# Altium footprint library PcbLib2.PcbLib: 1 footprints
Each footprint in its own frame and in the unit in brackets; x right, y up, seen from the top. Pads: shape width x height; smd on the part's side, far side on the other; paste and mask are expansions set on the pad; w line width, h text height; cw(c..) or ccw(c..) is an arc to the next point about the centre after c.
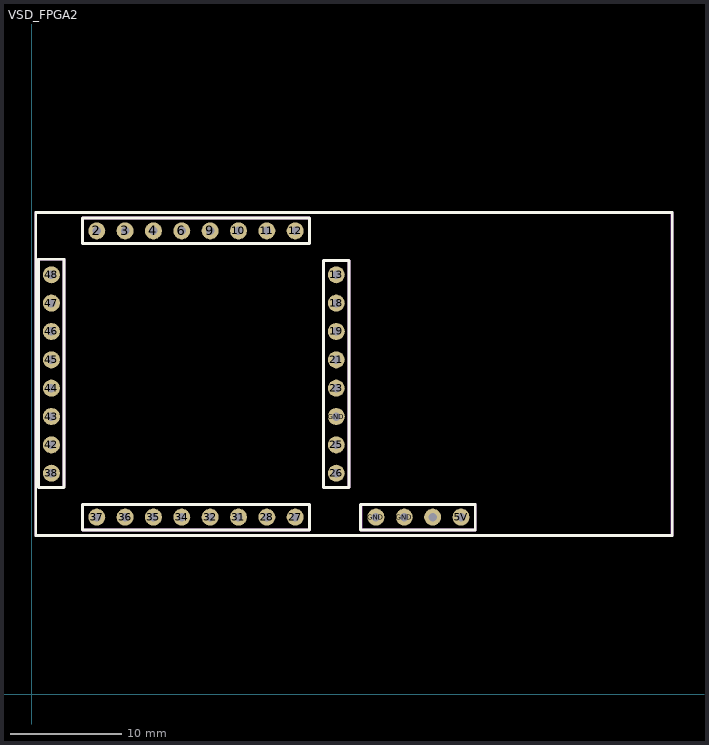
[diagram p0: the footprint, top view; thin cyan lines are the x and y axes]

## VSD_FPGA2 [mil] "VSD SQUADRON FM FPGA"
pads (36):
  round 60 hole 30: 2(230,1635) 3(330,1635) 3.3V(1415,625) 4(430,1635) 5V(1515,625) 6(530,1635) 9(630,1635) 10(730,1635) 11(830,1635) 12(930,1635) 13(1075,1480) 18(1075,1380) 19(1075,1280) 21(1075,1180) 23(1075,1080) 25(1075,880) 26(1075,780) 27(930,625) 28(830,625) 31(730,625) 32(630,625) 34(530,625) 35(430,625) 36(330,625) 37(230,625) 38(70,780) 42(70,880) 43(70,980) 44(70,1080) 45(70,1180) 46(70,1280) 47(70,1380) 48(70,1480) GND(1075,980) GND(1215,625) GND(1315,625)
Top Overlay:
  lines w10: 25,1530 25,730 115,730 115,1305 115,1530 ; 25,1535 115,1535 ; 180,600 180,670 ; 180,610 180,580 ; 265,1680 980,1680 ; 275,1680 180,1680 180,1590 980,1590 ; 180,580 980,580 980,670 180,670 ; 180,580 180,670 ; 980,1590 980,1680 ; 980,1590 980,1680 ; 15,560 15,1700 2260,1700 2260,560 15,560 ; 1030,730 1120,730 1120,1530 1030,1530 1030,1445 1030,730 ; 1160,580 1160,670 1565,670 1565,580 1160,580
Mechanical 1:
  lines w10: 25,735 25,1535 115,1535 115,735 ; 980,1590 180,1590 180,1680 980,1680 ; 1030,730 1030,1530 ; 1120,730 1120,1530 ; 980,580 980,670 ; 980,580 180,580 180,670 980,670 ; 980,580 980,670 ; 1030,1530 1120,1530 ; 1030,1530 1120,1530 ; 15,560 2259.09,560 2259.09,1700 15,1700 15,560 ; 1162.5,580 1565,580 1565,670 1162.5,670 1162.5,580
3D body: height 20, standoff 0, extent 25,730 115,1530
3D body: height 20, standoff 0, extent 17.95,555 2262.05,1695
3D body: height 20, standoff 0, extent 1162.5,585 1565,675
3D body: height 20, standoff 0, extent 1030,730 1120,1530
3D body: height 20, standoff 0, extent 180,580 980,670
3D body: height 20, standoff 0, extent 25,735 115,1535